# Altium schematic symbol library LTC6811HG-1#PBF.SchLib: 1 symbol
Pins are listed as number, name and electrical type; pins without a type are passive.

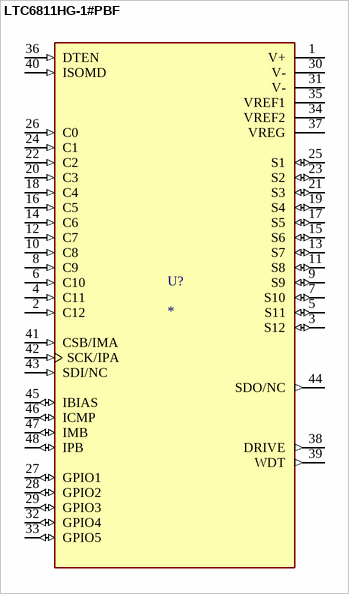
[diagram p0: symbol LTC6811HG-1#PBF]

## LTC6811HG-1#PBF
designator U?
LTC6811-1/LTC6811-2 - Multicell Battery Monitors; MP: LTC6811HG-1#PBF; MF: {'manufacturer': u'Linear Technology/Analog'}; Availability: Unavailable; Value: *; Price: None; Package: None
footprint SOP50P780X200-48N
pins: 1 V+ (power), 2 C12 (in), 3 S12 (io), 4 C11 (in), 5 S11 (io), 6 C10 (in), 7 S10 (io), 8 C9 (in), 9 S9 (io), 10 C8 (in), 11 S8 (io), 12 C7 (in), 13 S7 (io), 14 C6 (in), 15 S6 (io), 16 C5 (in), 17 S5 (io), 18 C4 (in), 19 S4 (io), 20 C3 (in), 21 S3 (io), 22 C2 (in), 23 S2 (io), 24 C1 (in), 25 S1 (io), 26 C0 (in), 27 GPIO1 (io), 28 GPIO2 (io), 29 GPIO3 (io), 30 V- (power), 31 V- (power), 32 GPIO4 (io), 33 GPIO5 (io), 34 VREF2 (power), 35 VREF1 (power), 36 DTEN (in), 37 VREG (power), 38 DRIVE (out), 39 WDT (out), 40 ISOMD (in), 41 CSB/IMA (in), 42 SCK/IPA (in), 43 SDI/NC (in), 44 SDO/NC (out), 45 IBIAS (io), 46 ICMP (io), 47 IMB (io), 48 IPB (io)